# EAGLE library part CONNECTOR-HEADER-40P (library OPL)
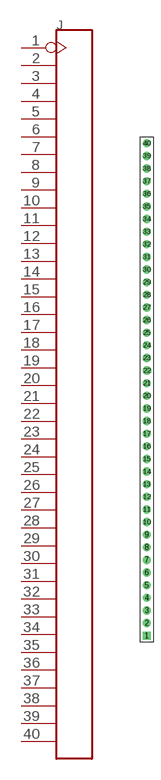
[diagram p38: symbol with the pads of 1X40P-2.54-2.54-11.6-3.0-BALCK-MALE; footprint 1X40P-2.54-2.54-11.6-3.0-BALCK-MALE]

Designator prefix J

## CONNECTOR-HEADER-40P-320020010  [1X40P-2.54-2.54-11.6-3.0-BALCK-MALE]
1  P$1
2  P$2
3  P$3
4  P$4
5  P$5
6  P$6
7  P$7
8  P$8
9  P$9
10  P$10
11  P$11
12  P$12
13  P$13
14  P$14
15  P$15
16  P$16
17  P$17
18  P$18
19  P$19
20  P$20
21  P$21
22  P$22
23  P$23
24  P$24
25  P$25
26  P$26
27  P$27
28  P$28
29  P$29
30  P$30
31  P$31
32  P$32
33  P$33
34  P$34
35  P$35
36  P$36
37  P$37
38  P$38
39  P$39
40  P$40

## Footprint 1X40P-2.54-2.54-11.6-3.0-BALCK-MALE (pad centres in mm)
drill 0.889 pad 1.651 square: 1 0,-49.53
drill 0.889 pad 1.651: 2 0,-46.99; 3 0,-44.45; 4 0,-41.91; 5 0,-39.37; 6 0,-36.83; 7 0,-34.29; 8 0,-31.75; 9 0,-29.21; 10 0,-26.67; 11 0,-24.13; 12 0,-21.59; 13 0,-19.05; 14 0,-16.51; 15 0,-13.97; 16 0,-11.43; 17 0,-8.89; 18 0,-6.35; 19 0,-3.81; 20 0,-1.27; 21 0,1.27; 22 0.025,3.81; 23 0,6.35; 24 0,8.89; 25 0,11.43; 26 0,13.97; 27 0,16.51; 28 0,19.05; 29 0,21.59; 30 0,24.13; 31 0,26.67; 32 0,29.21; 33 0,31.75; 34 0,34.29; 35 0,36.83; 36 0,39.37; 37 0,41.91; 38 0,44.45; 39 0,46.99; 40 0,49.53